# EAGLE library part PIC24HJ128GP506A-I/PT (library jasons_stuff)
IC MCU 16BIT 128KB FLASH ,TQFP-64
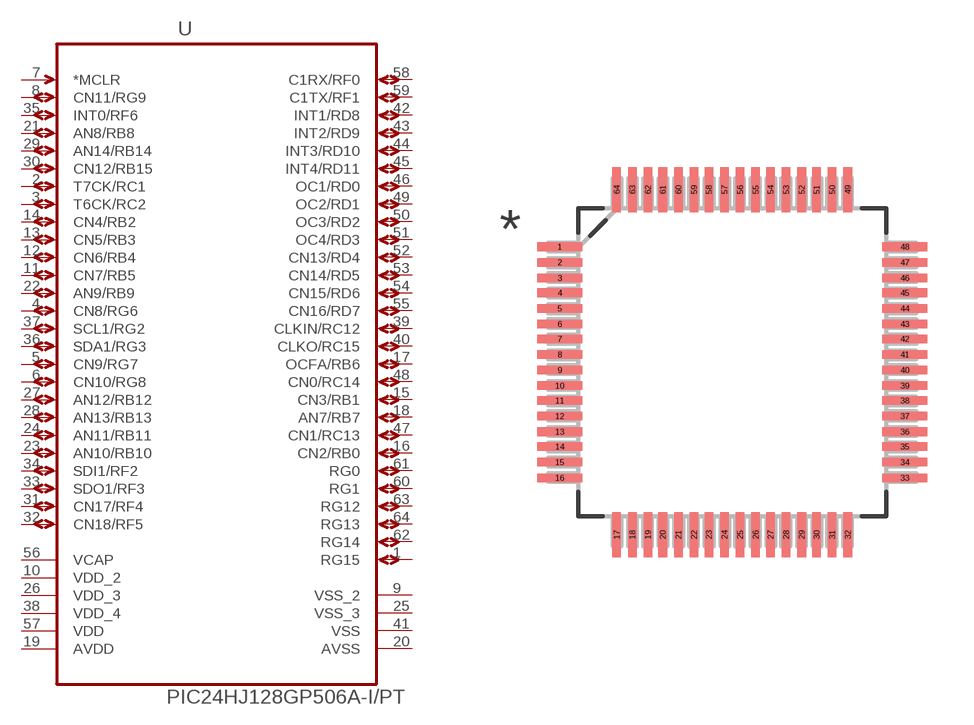
[diagram p37: symbol with the pads of QFP50P1200X1200X120-64N; footprint QFP50P1200X1200X120-64N]

Designator prefix U

## PIC24HJ128GP506A-I/PT (MPN: PIC24HJ128GP506A-I/PT; OC_FARNELL: 1847230; OC_NEWARK: 45P4849; PACKAGE: TQFP-64; SUPPLIER: Microchip)  [QFP50P1200X1200X120-64N]
1  RG15
2  T7CK/RC1
3  T6CK/RC2
4  CN8/RG6
5  CN9/RG7
6  CN10/RG8
7  *MCLR  in
8  CN11/RG9
9  VSS_2  pwr
10  VDD_2  pwr
11  CN7/RB5
12  CN6/RB4
13  CN5/RB3
14  CN4/RB2
15  CN3/RB1
16  CN2/RB0
17  OCFA/RB6
18  AN7/RB7
19  AVDD  pwr
20  AVSS  pwr
21  AN8/RB8
22  AN9/RB9
23  AN10/RB10
24  AN11/RB11
25  VSS_3  pwr
26  VDD_3  pwr
27  AN12/RB12
28  AN13/RB13
29  AN14/RB14
30  CN12/RB15
31  CN17/RF4
32  CN18/RF5
33  SDO1/RF3
34  SDI1/RF2
35  INT0/RF6
36  SDA1/RG3
37  SCL1/RG2
38  VDD_4  pwr
39  CLKIN/RC12
40  CLKO/RC15
41  VSS  pwr
42  INT1/RD8
43  INT2/RD9
44  INT3/RD10
45  INT4/RD11
46  OC1/RD0
47  CN1/RC13
48  CN0/RC14
49  OC2/RD1
50  OC3/RD2
51  OC4/RD3
52  CN13/RD4
53  CN14/RD5
54  CN15/RD6
55  CN16/RD7
56  VCAP  pwr
57  VDD  pwr
58  C1RX/RF0
59  C1TX/RF1
60  RG1
61  RG0
62  RG14
63  RG12
64  RG13

## Footprint QFP50P1200X1200X120-64N (pad centres in mm)
smd 1.473 x 0.279: 1 -5.613,3.759; 2 -5.613,3.251; 3 -5.613,2.743; 4 -5.613,2.261; 5 -5.613,1.753; 6 -5.613,1.245; 7 -5.613,0.762; 8 -5.613,0.254; 9 -5.613,-0.254; 10 -5.613,-0.762; 11 -5.613,-1.245; 12 -5.613,-1.753; 13 -5.613,-2.261; 14 -5.613,-2.743; 15 -5.613,-3.251; 16 -5.613,-3.759; 33 5.613,-3.759; 34 5.613,-3.251; 35 5.613,-2.743; 36 5.613,-2.261; 37 5.613,-1.753; 38 5.613,-1.245; 39 5.613,-0.762; 40 5.613,-0.254; 41 5.613,0.254; 42 5.613,0.762; 43 5.613,1.245; 44 5.613,1.753; 45 5.613,2.261; 46 5.613,2.743; 47 5.613,3.251; 48 5.613,3.759
smd 0.279 x 1.473: 17 -3.759,-5.613; 18 -3.251,-5.613; 19 -2.743,-5.613; 20 -2.261,-5.613; 21 -1.753,-5.613; 22 -1.245,-5.613; 23 -0.762,-5.613; 24 -0.254,-5.613; 25 0.254,-5.613; 26 0.762,-5.613; 27 1.245,-5.613; 28 1.753,-5.613; 29 2.261,-5.613; 30 2.743,-5.613; 31 3.251,-5.613; 32 3.759,-5.613; 49 3.759,5.613; 50 3.251,5.613; 51 2.743,5.613; 52 2.261,5.613; 53 1.753,5.613; 54 1.245,5.613; 55 0.762,5.613; 56 0.254,5.613; 57 -0.254,5.613; 58 -0.762,5.613; 59 -1.245,5.613; 60 -1.753,5.613; 61 -2.261,5.613; 62 -2.743,5.613; 63 -3.251,5.613; 64 -3.759,5.613